# Altium footprint library TEXASINSTRUMENTS_DQE0008A.PcbLib: 1 footprints
Each footprint in its own frame and in the unit in brackets; x right, y up, seen from the top. Pads: shape width x height; smd on the part's side, far side on the other; paste and mask are expansions set on the pad; w line width, h text height; cw(c..) or ccw(c..) is an arc to the next point about the centre after c.
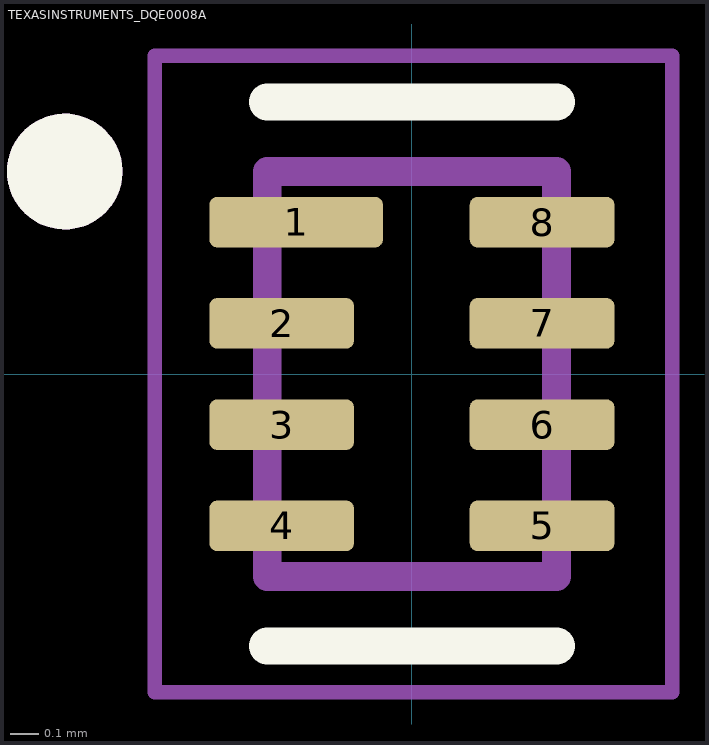
[diagram p0: the footprint, top view; thin cyan lines are the x and y axes]

## TEXASINSTRUMENTS_DQE0008A [mm] "TEXASINSTRUMENTS_DQE0008A"
height 0.4
pads (8):
  rrect30% 0.6x0.175 smd paste+0 mask+0.05: 1(-0.4,0.525)
  rrect30% 0.5x0.175 smd paste+0 mask+0.05: 2(-0.45,0.175) 3(-0.45,-0.175) 4(-0.45,-0.525) 5(0.45,-0.525) 6(0.45,-0.175) 7(0.45,0.175) 8(0.45,0.525)
Top Overlay:
  circle w0.2: c-1.2,0.7 r0.1
  lines w0.127: -0.5,-0.94 0.5,-0.94 ; -0.5,0.94 0.5,0.94
Mechanical 13:
  circle w0.2: c-1.2,0.7 r0.1
  lines w0.1: -0.5,-0.7 -0.5,0.7 0.5,0.7 0.5,-0.7 -0.5,-0.7
Mechanical 15:
  lines w0.05: -0.889,-1.1 -0.889,1.1 0.9,1.1 0.9,-1.1 -0.889,-1.1
3D body "PCA9306DQER.step": height 0.4, standoff 0, extent -0.5,-0.7 0.5,0.7